# Altium footprint library DXPpcb.PCBLIB: 575 footprints (part 11 of 36)
Each footprint in its own frame and in the unit in brackets; x right, y up, seen from the top. Pads: shape width x height; smd on the part's side, far side on the other; paste and mask are expansions set on the pad; w line width, h text height; cw(c..) or ccw(c..) is an arc to the next point about the centre after c.
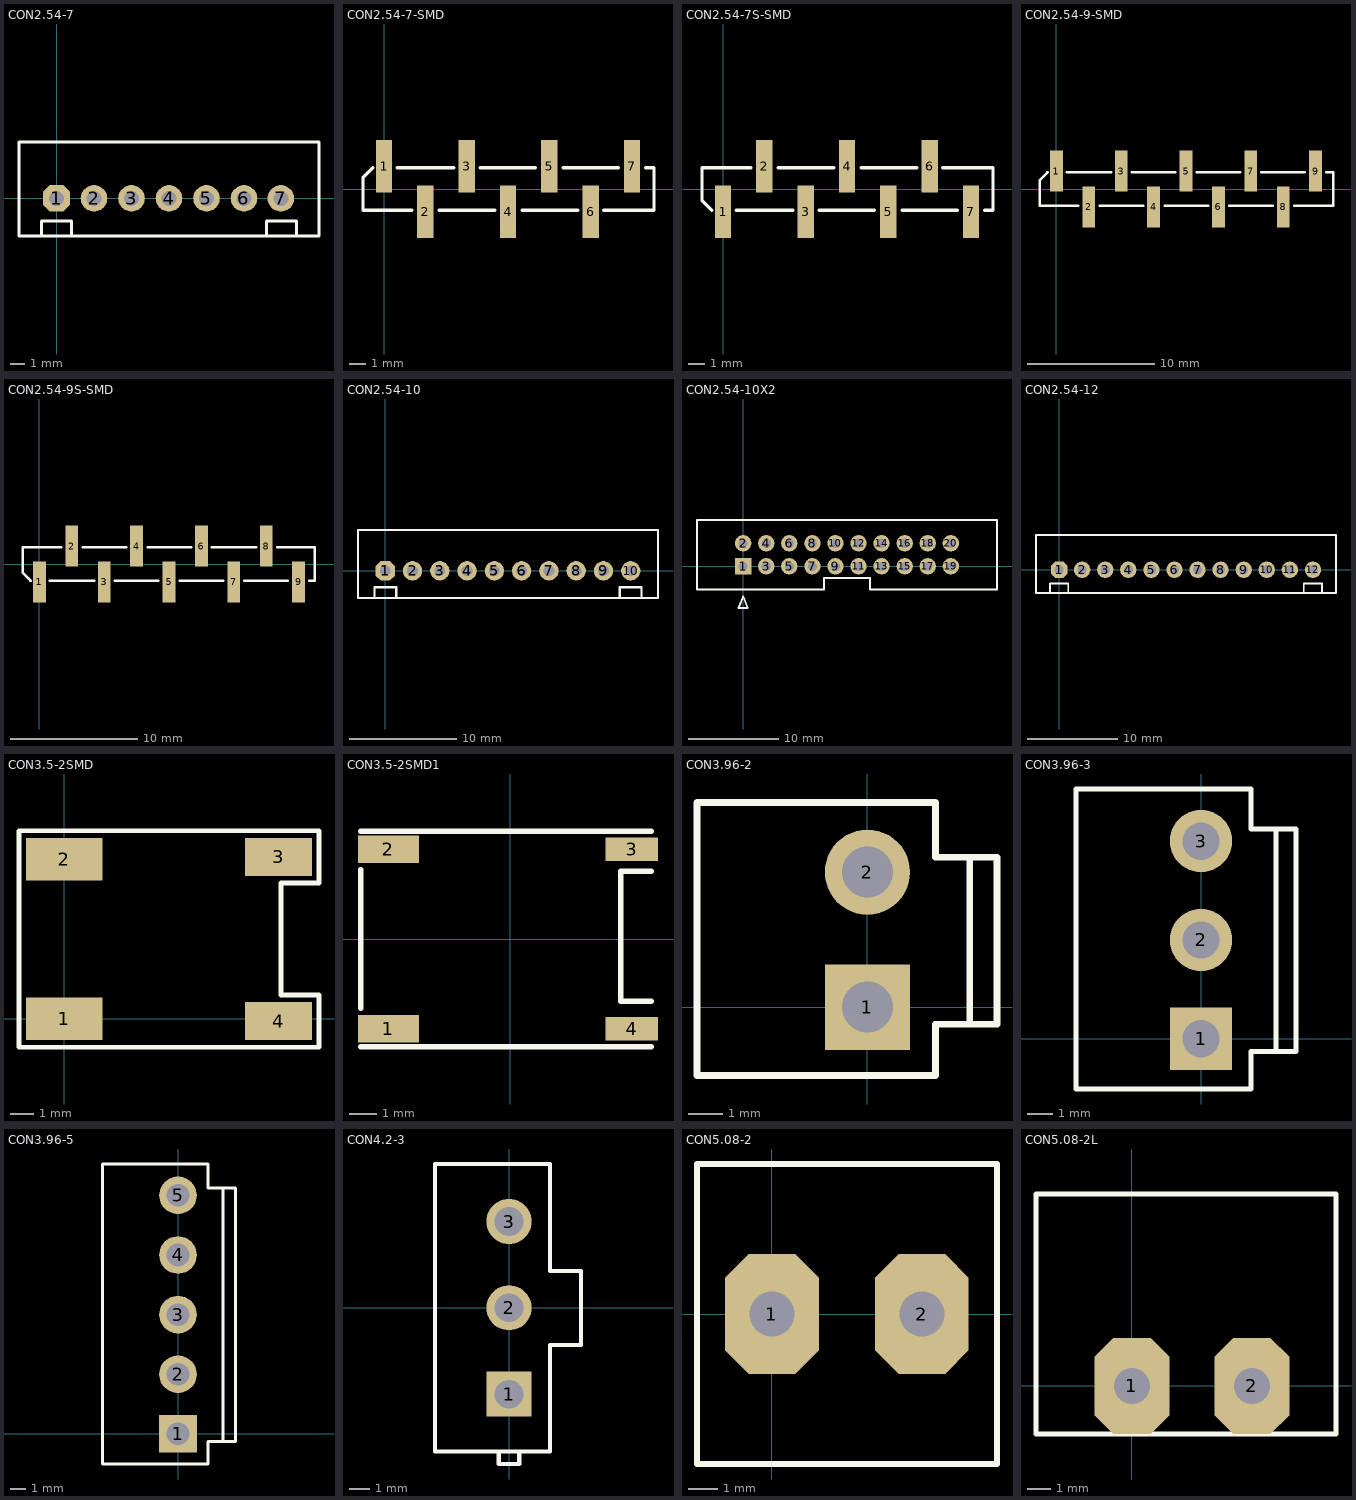
[diagram p10: the footprints below, top view; thin cyan lines are the x and y axes]

## CON2.54-7 [mm]
pads (7):
  oct 1.8x1.8 hole 1: 1(0,0)
  round 1.8 hole 1: 2(2.54,0) 3(5.08,0) 4(7.62,0) 5(10.16,0) 6(12.7,0) 7(15.2,0)
TopOverlay:
  lines w0.2: -1.016,-2.54 -1.016,-1.524 1.016,-1.524 1.016,-2.54 ; 14.224,-2.54 14.224,-1.524 16.256,-1.524 16.256,-2.54 ; -2.54,-2.54 17.78,-2.54 17.78,3.81 -2.54,3.81 -2.54,0 -2.54,-2.54

## CON2.54-7-SMD [mm]
pads (7):
  rect 1x3.2 smd: 1(0,1.4) 2(2.54,-1.4) 3(5.08,1.4) 4(7.62,-1.4) 5(10.16,1.4) 6(12.7,-1.4) 7(15.24,1.4)
TopOverlay:
  lines w0.2: -0.7,1.3 -1.3,0.7 -1.3,-1.3 1.7,-1.3 ; 0.8,1.3 4.3,1.3 ; 3.4,-1.3 6.8,-1.3 ; 5.9,1.3 9.3,1.3 ; 8.5,-1.3 11.9,-1.3 ; 11,1.3 14.4,1.3 ; 13.5,-1.3 16.6,-1.3 16.6,1.3 16.08,1.3

## CON2.54-7S-SMD [mm]
pads (7):
  rect 1x3.2 smd: 1(0,-1.4) 2(2.54,1.4) 3(5.08,-1.4) 4(7.62,1.4) 5(10.16,-1.4) 6(12.7,1.4) 7(15.24,-1.4)
TopOverlay:
  lines w0.2: -0.7,-1.3 -1.3,-0.7 -1.3,1.3 1.7,1.3 ; 0.8,-1.3 4.3,-1.3 ; 3.4,1.3 6.8,1.3 ; 5.9,-1.3 9.3,-1.3 ; 8.5,1.3 11.9,1.3 ; 11,-1.3 14.4,-1.3 ; 13.5,1.3 16.6,1.3 16.6,-1.3 16.08,-1.3

## CON2.54-9-SMD [mm]
pads (9):
  rect 1x3.2 smd: 1(0,1.4) 2(2.54,-1.4) 3(5.08,1.4) 4(7.62,-1.4) 5(10.16,1.4) 6(12.7,-1.4) 7(15.24,1.4) 8(17.78,-1.4) 9(20.32,1.4)
TopOverlay:
  lines w0.2: -0.7,1.3 -1.3,0.7 -1.3,-1.3 1.7,-1.3 ; 0.8,1.3 4.3,1.3 ; 3.4,-1.3 6.8,-1.3 ; 5.9,1.3 9.3,1.3 ; 8.5,-1.3 11.9,-1.3 ; 11,1.3 14.4,1.3 ; 13.56,-1.3 16.96,-1.3 ; 16.06,1.3 19.46,1.3 ; 18.66,-1.3 21.7,-1.3 21.7,1.3 21.16,1.3

## CON2.54-9S-SMD [mm]
pads (9):
  rect 1x3.2 smd: 1(0,-1.4) 2(2.54,1.4) 3(5.08,-1.4) 4(7.62,1.4) 5(10.16,-1.4) 6(12.7,1.4) 7(15.24,-1.4) 8(17.78,1.4) 9(20.32,-1.4)
TopOverlay:
  lines w0.2: -0.7,-1.3 -1.3,-0.7 -1.3,1.3 1.7,1.3 ; 0.8,-1.3 4.3,-1.3 ; 3.4,1.3 6.8,1.3 ; 5.9,-1.3 9.3,-1.3 ; 8.5,1.3 11.9,1.3 ; 11,-1.3 14.4,-1.3 ; 13.5,1.3 17,1.3 ; 16.06,-1.3 19.46,-1.3 ; 18.66,1.3 21.6,1.3 21.6,-1.3 21.16,-1.3

## CON2.54-10 [mm]
pads (10):
  oct 1.8x1.8 hole 1: 1(0,0)
  round 1.8 hole 1: 2(2.54,0) 3(5.08,0) 4(7.62,0) 5(10.16,0) 6(12.7,0) 7(15.24,0) 8(17.78,0) 9(20.32,0) 10(22.86,0)
TopOverlay:
  lines w0.2: -1.016,-2.54 -1.016,-1.524 1.016,-1.524 1.016,-2.54 ; 21.844,-2.54 21.844,-1.524 23.876,-1.524 23.876,-2.54 ; -2.54,-2.54 -2.54,0 -2.54,3.81 12.7,3.81 25.4,3.81 25.4,-2.54 12.7,-2.54 -2.54,-2.54

## CON2.54-10X2 [mm]
pads (20):
  rect 1.8x1.8 hole 1: 1(0,0)
  round 1.8 hole 1: 2(0,2.54) 3(2.54,0) 4(2.54,2.54) 5(5.08,0) 6(5.08,2.54) 7(7.62,0) 8(7.62,2.54) 9(10.16,0) 10(10.16,2.54) 11(12.7,0) 12(12.7,2.54) 13(15.24,0) 14(15.24,2.54) 15(17.78,0) 16(17.78,2.54) 17(20.32,0) 18(20.32,2.54) 19(22.86,0) 20(22.86,2.54)
TopOverlay:
  lines w0.2: -5.08,-2.54 8.89,-2.54 8.89,-1.27 13.97,-1.27 13.97,-2.54 27.94,-2.54 27.94,5.08 -5.08,5.08 -5.08,-2.54 ; -0.508,-4.572 0.508,-4.572 0,-3.302 -0.508,-4.572

## CON2.54-12 [mm]
pads (12):
  oct 1.8x1.8 hole 1: 1(0,0)
  round 1.8 hole 1: 2(2.54,0) 3(5.08,0) 4(7.62,0) 5(10.16,0) 6(12.7,0) 7(15.24,0) 8(17.78,0) 9(20.32,0) 10(22.86,0) 11(25.4,0) 12(27.94,0)
TopOverlay:
  lines w0.2: -1.016,-2.54 -1.016,-1.524 1.016,-1.524 1.016,-2.54 ; 26.924,-2.54 26.924,-1.524 28.956,-1.524 28.956,-2.54 ; -2.54,-2.54 -2.54,0 -2.54,3.81 12.7,3.81 30.48,3.81 30.48,-2.54 12.7,-2.54 -2.54,-2.54

## CON3.5-2SMD [mm] "J?"
pads (4):
  rect 3.2x1.8 smd: 1(0,0) 2(0,6.7)
  rect 2.8x1.6 smd: 3(9,6.8) 4(9,-0.1)
TopOverlay:
  lines w0.2: -1.9,-1.2 -1.9,7.9 10.7,7.9 10.7,5.7 9.1,5.7 9.1,1 10.7,1 10.7,-1.2 -1.9,-1.2

## CON3.5-2SMD1 [mm] "J?"
pads (4):
  rect 2.2x1 smd: 1(-4.4,-3.25) 2(-4.4,3.25)
  rect 1.9x0.85 smd: 3(4.4,3.25) 4(4.4,-3.25)
TopOverlay:
  lines w0.2: -5.4,-3.9 5.1,-3.9 ; -5.4,-2.5 -5.4,2.5 ; -5.4,3.9 5.1,3.9 ; 5.1,-2.25 4,-2.25 4,2.45 5.1,2.45

## CON3.96-2 [mm]
pads (2):
  rect 2.5x2.5 hole 1.5: 1(0,0)
  round 2.5 hole 1.5: 2(0,3.96)
TopOverlay:
  lines w0.2: 3,-0.5 3,4.4 ; -5,-2 -5,6 2,6 2,4.4 3.8,4.4 3.8,-0.5 2,-0.5 2,-2 -5,-2

## CON3.96-3 [mm]
pads (3):
  rect 2.5x2.5 hole 1.5: 1(0,0)
  round 2.5 hole 1.5: 2(0,3.96) 3(0,7.92)
TopOverlay:
  lines w0.2: 3,-0.5 3,8.4 ; -5,-2 2,-2 2,-0.5 3.8,-0.5 3.8,8.4 2,8.4 2,10 -5,10 -5,-2

## CON3.96-5 [mm]
pads (5):
  rect 2.5x2.5 hole 1.5: 1(0,0)
  round 2.5 hole 1.5: 2(0,3.96) 3(0,7.92) 4(0,11.88) 5(0,15.84)
TopOverlay:
  lines w0.2: -5,17.9 -5,-2 2,-2 2,-0.5 3.8,-0.5 3.8,16.3 ; -5,17.92 2,17.92 2,16.32 3.8,16.32 ; 3,-0.5 3,16.3

## CON4.2-3 [mm]
pads (3):
  rect 2.2x2.2 hole 1.4: 1(0,-4.2)
  round 2.2 hole 1.4: 2(0,0) 3(0,4.2)
TopOverlay:
  lines w0.2: 0.5,-7 0.5,-7.6 -0.5,-7.6 -0.5,-7 ; -0.5,-7 -3.6,-7 -3.6,7 2,7 2,1.8 3.5,1.8 3.5,-1.8 2,-1.8 2,-7 -0.5,-7

## CON5.08-2 [mil]
pads (2):
  oct 125x160 hole 60: 1(0,0) 2(200,0)
TopOverlay:
  lines w7.87: -100,-200 300.35,-200 300.35,200 -100,200 -100,-200

## CON5.08-2L [mil]
pads (2):
  oct 125x160 hole 60: 1(0,0) 2(200,0)
TopOverlay:
  lines w7.87: -160,-80 -160,320 340.35,320 340.35,-80 -160,-80